# EAGLE library part 17PIN2MM (library Particle)
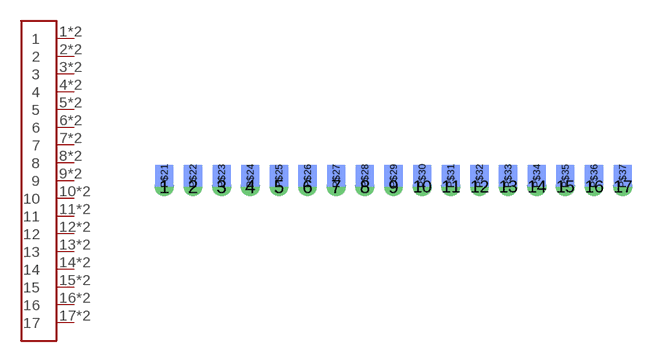
[diagram p32: symbol with the pads of 17PIN2MM; footprint 17PIN2MM]

Designator prefix -

## 17PIN2MM  [17PIN2MM]
1  1
2  2
3  3
4  4
5  5
6  6
7  7
8  8
9  9
10  10
11  11
12  12
13  13
14  14
15  15
16  16
17  17
P$21  1
P$22  2
P$23  3
P$24  4
P$25  5
P$26  6
P$27  7
P$28  8
P$29  9
P$30  10
P$31  11
P$32  12
P$33  13
P$34  14
P$35  15
P$36  16
P$37  17

## Footprint 17PIN2MM (pad centres in mm)
drill 0.8 pad 1.27: 1 0,0; 2 2,0; 3 4,0; 4 6,0; 5 8,0; 6 10,0; 7 12,0; 8 14,0; 9 16,0; 10 18,0; 11 20,0; 12 22,0; 13 24,0; 14 26,0; 15 28,0; 16 30,0; 17 32,0
smd 1.27 x 1.5 bottom: P$21 0,0.75; P$22 2,0.75; P$23 4,0.75; P$24 6,0.75; P$25 8,0.75; P$26 10,0.75; P$27 12,0.75; P$28 14,0.75; P$29 16,0.75; P$30 18,0.75; P$31 20,0.75; P$32 22,0.75; P$33 24,0.75; P$34 26,0.75; P$35 28,0.75; P$36 30,0.75; P$37 32,0.75